# Altium footprint library Bourns.PcbLib: 2 footprints
Each footprint in its own frame and in the unit in brackets; x right, y up, seen from the top. Pads: shape width x height; smd on the part's side, far side on the other; paste and mask are expansions set on the pad; w line width, h text height; cw(c..) or ccw(c..) is an arc to the next point about the centre after c.
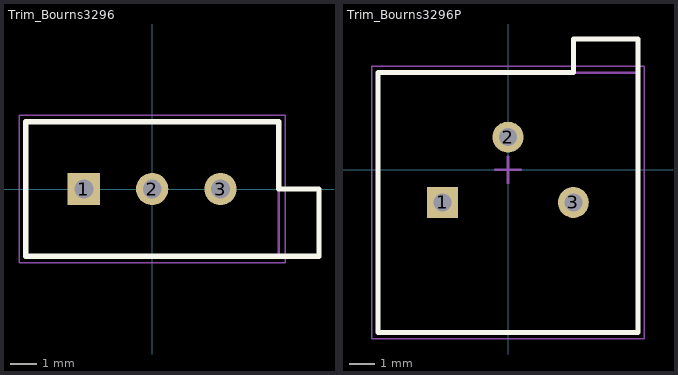
[diagram p0: the footprints below, top view; thin cyan lines are the x and y axes]

## Trim_Bourns3296 [mm] "Trimmer Bourns3296 or AB-85W"
height 10
pads (3):
  rect 1.2x1.2 hole 0.7: 1(-2.54,0)
  round 1.2 hole 0.7: 2(0,0) 3(2.54,0)
Top Overlay:
  lines w0.2: -4.7,-2.5 -4.7,2.5 4.7,2.5 4.7,0 6.2,0 6.2,-2.5 -4.7,-2.5
Mechanical 13:
  lines w0.1: 4.7,0 6.2,0 6.2,-2.5 4.7,-2.5 ; 4.7,-2.5 -4.7,-2.5 -4.7,2.5 4.7,2.5 4.7,-2.5
Mechanical 15:
  lines w0.05: -4.95,-2.75 4.95,-2.75 4.95,2.75 -4.95,2.75 -4.95,-2.75
  lines w0.1: -0.5,0 0.5,0 ; 0,-0.5 0,0.5
3D body "Trim_Vertical.step": height 12.16, standoff -5.34, extent -4.6,-2.4 4.6,2.4

## Trim_Bourns3296P [mm] "Trimmer Bourns3296 or AB-85W"
height 4.8
pads (3):
  rect 1.2x1.2 hole 0.7: 1(-2.54,-1.27)
  round 1.2 hole 0.7: 2(0,1.27) 3(2.54,-1.27)
Top Overlay:
  lines w0.2: -5.05,-6.325 5.05,-6.325 5.05,5.08 2.54,5.08 2.54,3.775 -5.05,3.775 -5.05,-6.325
Mechanical 13:
  lines w0.1: 2.55,3.775 2.55,5.075 5.05,5.075 5.05,3.775 ; 5.05,3.775 -5.05,3.775 -5.05,-6.325 5.05,-6.325 5.05,3.775
Mechanical 15:
  lines w0.05: -5.3,-6.575 5.3,-6.575 5.3,4.025 -5.3,4.025 -5.3,-6.575
  lines w0.1: -0.5,0 0.5,0 ; 0,-0.5 0,0.5
3D body: height 0, standoff -1.5, extent -2.788,-1.519 -2.29,-1.02
3D body: height 0, standoff -1.5, extent 2.292,-1.519 2.79,-1.02
3D body: height 0, standoff -1.5, extent -0.248,1.021 0.25,1.52
3D body: height 5, standoff 0, extent -4.9,-6.2 4.9,3.6
3D body: height 4.6, standoff 2.4, extent 2.504,3.6 4.696,4.9